# Altium schematic symbol library SYNCBOX_TST.SCHLIB: 106 symbols (part 2 of 3)
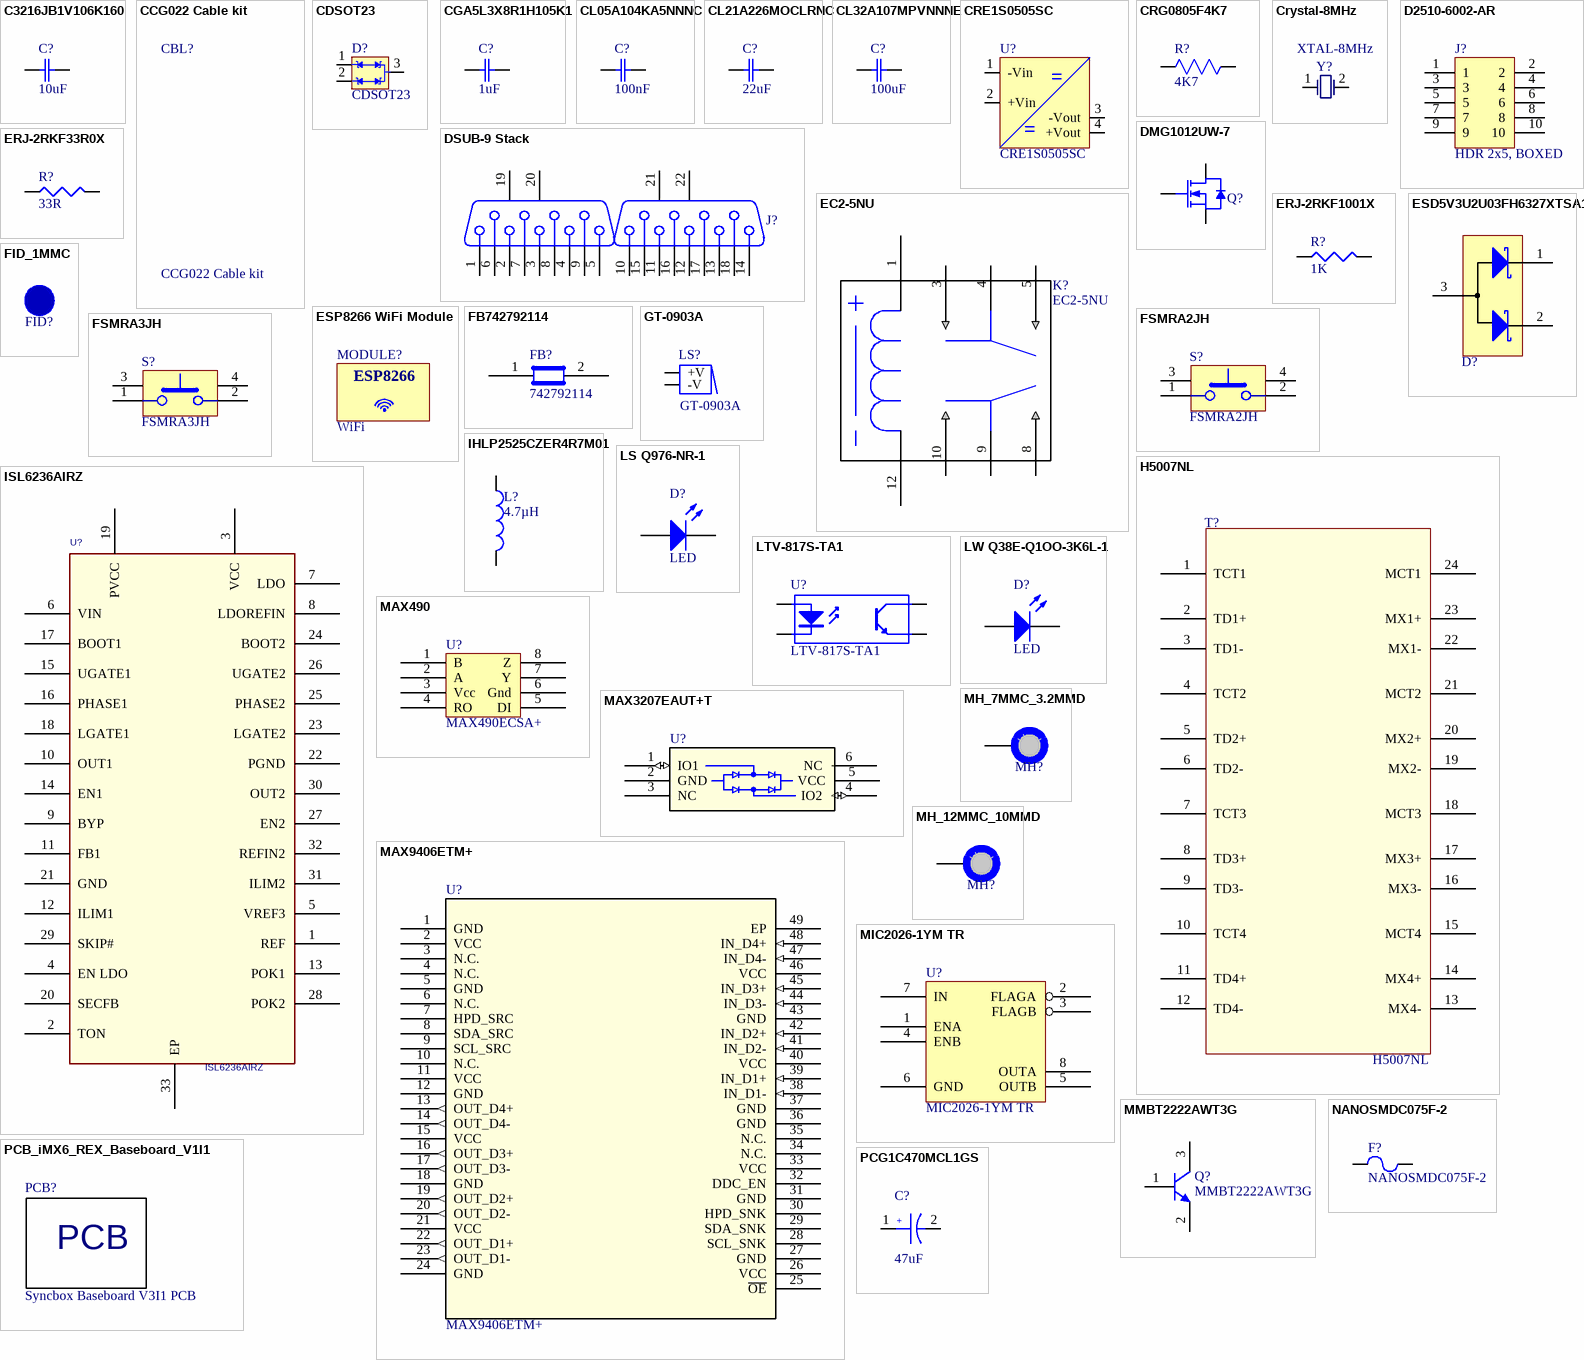
[diagram p3: symbols C3216JB1V106K160 to PCG1C470MCL1GS]

## CL32A107MPVNNNE
designator C?, comment 100uF
CAP CER 100UF 10V X5R 1210; Manufacturer_Part_Number: C1210C107M8PACTU; Manufacturer 1: Samsung Electro-Mechanics; Manufacturer Part Number 1: CL32A107MPVNNNE; Tolerance: ±20%; Vendor: Kemet; Built_By: EMA_UL_Team; Type: DEV; C: Copyright (C) 2015 Accelerated Designs. All rights reserved; Notification: Current market demand for these product types have resulted in fluctuating and extending lead times. Lead times may differ.; Category: Capacitors; Operating Temperature: -55°C ~ 85°C; Package / Case: 1210 (3225 Metric); Value: 100uF; Voltage - Rated: 10V; Supplier 1: Digi-Key; Supplier Part Number 1: 1276-3364-1-ND; RoHS: RoHS Compliant; Stock 1: 10000; Pricing 1: 1=1.23, 10=0.97, 100=0.7277, 500=0.54984 (USD); Temperature Coefficient: X5R; Mounting Type: Surface Mount, MLCC; Applications: General Purpose; Ratings: -; Size / Dimension: 0.126" L x 0.098" W (3.20mm x 2.50mm); Height - Seated (Max): -; Thickness (Max): 0.110" (2.80mm); Lead Spacing: -; Features: -; Packaging: Cut Tape (CT); Lead Style: -; ComponentLink1URL: http://www.samsungsem.com/kr/support/product-search/mlcc/CL32A107MPVNNNE.jsp; ComponentLink1Description: http://www.samsungsem.com/kr/support/product-search/mlcc/CL32A107MPVNNNE.jsp; RefDes: RefDes; Part Status: Active; Description 1: CAP CER 100UF 10V X5R 1210
footprint C1210C
footprint C1210C-L
footprint C1210C-M
pins: 1, 2

## CRE1S0505SC
designator U?
DC/DC TH 1W 5-5V SIP SINGLE; Manufacturer 1: Murata Power Solutions Inc.; Voltage - Input (Min): 4.5V; Voltage - Input (Max): 5.5V; Voltage - Output 1: 5V; Current - Output (Max): 200mA; Efficiency: 70%; .Checked SCH: CHK; Manufacturer Part Number 1: CRE1S0505SC; RoHS: RoHS Compliant; Stock 1: 676; Pricing 1: 1=2.69, 5=2.68, 10=2.66, 25=2.63, 50=2.56, 100=2.43, 250=2.28, 500=2.13002, 1000=2.1147 (USD); Packaging: Tube; Part Status: Active; Type: Isolated Module; Voltage - Output 2: -; Voltage - Output 3: -; Applications: ITE (Commercial); Features: -; Operating Temperature: -40°C ~ 85°C; Mounting Type: Through Hole; Package / Case: 4-SIP Module; Size / Dimension: 0.45" L x 0.24" W x 0.30" H (11.5mm x 6.1mm x 7.5mm); Supplier Device Package: -; ComponentLink1URL: https://power.murata.com/data/power/ncl/kdc_cre1.pdf; ComponentLink1Description: https://power.murata.com/data/power/ncl/kdc_cre1.pdf; Supplier 1: Digi-Key; Supplier Part Number 1: 811-3196-ND; Description 1: DC/DC TH 1W 5-5V SIP SINGLE; Category: Power Supplies - Board Mount; .Checked PCB: CHK
footprint CRE1S0505SC
pins: 1 -Vin, 2 +Vin, 3 -Vout, 4 +Vout

## CRG0805F4K7
designator R?, comment 4K7
RES SMD 4.7K OHM 1% 1/8W 0805; Manufacturer_Part_Number: CRG0805F4K7; Manufacturer 1: TE Connectivity Passive Product; Vendor: TE Connectivity; Built_By: EMA_UL_Team; C: Copyright (C) 2015 Accelerated Designs. All rights reserved; Power (Watts): 0.125W, 1/8W; Temperature Coefficient: ±100ppm/°C; .Checked PCB: CHK; RefDes: RefDes; Type: DEV; Value: 4k7; Manufacturer Part Number 1: CRG0805F4K7; RoHS: RoHS Compliant; Stock 1: 28633; Pricing 1: 1=0.1, 10=0.035, 100=0.0143, 1000=0.00641, 2500=0.00557 (USD); Packaging: Cut Tape (CT); Part Status: Active; Tolerance: ±1%; Composition: Thick Film; Features: -; Operating Temperature: -55°C ~ 125°C; Package / Case: 0805 (2012 Metric); Supplier Device Package: 0805; Size / Dimension: 0.079" L x 0.049" W (2.00mm x 1.25mm); Height - Seated (Max): 0.026" (0.65mm); Failure Rate: -; ComponentLink1URL: http://www.te.com/commerce/DocumentDelivery/DDEController?Action=srchrtrv&DocNm=1773204&DocType=DS&DocLang=English; ComponentLink1Description: http://www.te.com/commerce/DocumentDelivery/DDEController?Action=srchrtrv&DocNm=1773204&DocType=DS&DocLang=English; Supplier 1: Digi-Key; Supplier Part Number 1: A106065CT-ND; Description 1: RES SMD 4.7K OHM 1% 1/8W 0805; Category: Resistors; .Checked SCH: CHK
footprint RES0805_CRG_TYCO
pins: 1, 2

## Crystal-8MHz
designator Y?, comment XTAL-8MHz
8MHz ±30ppm Crystal 18pF 80 Ohm -20°C ~ 70°C  Surface Mount HC49/US; Brand: ABRACON; Case Height: 4.2 mm; Case Length: 11.4 mm; Case Width: 4.7 mm; ESR: 80 Ohms; Frequency Stability: 50 PPM; Manufacturer 2: ABRACON; Manufacturer Part Number 2: ABLS-8.000MHZ-B4-T; Stock 2: 7825; Dimensions: 4.7 mm W x 11.4 mm L x 4.2 mm H; Frequency: 8 MHz; Load Capacitance: 18 pF; Package / Case: HC-49/US; Operating Temperature Range: - 20 C to + 70 C; Mounting Style: SMD/SMT; Factory Pack Quantity: 1000; Product Category: Crystals; RoHS: Details; Tolerance: 30 PPM; Termination Style: SMD/SMT; Packaging: Reel; Series: ABLS; Type: Low Profile Microprocessor Crystal; ComponentLink1URL: https://abracon.com/Support/PackageDrawing/Resonators/ABLS-2D.pdf; ComponentLink1Description: https://abracon.com/Support/PackageDrawing/Resonators/ABLS-2D.pdf; ComponentLink2URL: http://www.abracon.com/Support/PackageDrawing/Resonators/ABLS-2D.pdf; ComponentLink2Description: http://www.abracon.com/Support/PackageDrawing/Resonators/ABLS-2D.pdf; Supplier 1: Digi-Key; Supplier Part Number 1: 535-10212-1-ND; Supplier 2: RSComponents; Supplier Part Number 2: 1710238; Description 2: 8MHz ±30ppm Crystal 18pF 80 Ohm -20°C ~ 70°C  Surface Mount HC49/US
footprint HC49/US
pins: 1, 2

## D2510-6002-AR
designator J?, comment HDR 2x5, BOXED
CONN HEADER 10POS VERT 10GOLD; Manufacturer: 3M; Manufacturer Part Number: D2510-6002-AR; Connector Type: Header, Shrouded; Number of Positions: 10; Number of Positions Loaded: All; Pitch: 0.100" (2.54mm); .Creator: MM; Supplier 1: Digi-Key; RoHS: RoHS Compliant; Category: Connectors, Interconnects; Stock 1: 1080; Pricing 1: 1=1.57, 10=1.421, 50=1.276, 100=1.218, 250=1.102, 500=1.015, 1000=0.87, 2500=0.812, 5000=0.7714 (USD); Packaging: Bulk; Contact Type: Male Pin; Number of Rows: 2; Row Spacing: 0.100" (2.54mm); Contact Mating Length: 0.243" (6.17mm); Mounting Type: Through Hole; Termination: Solder; Fastening Type: -; Features: -; Contact Finish: Gold; Contact Finish Thickness: 10µin (0.25µm); Color: Black; ComponentLink1URL: http://multimedia.3m.com/mws/mediawebserver?66666UuZjcFSLXTtm8T_oxMcEVuQEcuZgVs6EVs6E666666--; ComponentLink1Description: http://multimedia.3m.com/mws/mediawebserver?66666UuZjcFSLXTtm8T_oxMcEVuQEcuZgVs6EVs6E666666--; Supplier Part Number 1: MHC10E-ND; .Checked PCB: MM; .Checked SCH: MM
footprint HDR_2X5_2.54MM_BOXED
pins: 1, 2, 3, 4, 5, 6, 7, 8, 9, 10

## DMG1012UW-7
designator Q?, comment MOSFET N-CH 20V 1A SOT323  (value not drawn)
Manufacturer 1: Diodes Incorporated; Manufacturer Part Number 1: DMG1012UW-7; Note: Pin 2 is electrically connected to pin 4.; FET Type: N-Channel; Current - Continuous Drain (Id) @ 25°C: 1A (Ta); Drive Voltage (Max Rds On,  Min Rds On): 1.8V, 4.5V; Rds On (Max) @ Id, Vgs: 450 mOhm @ 600mA, 4.5V; Vgs(th) (Max) @ Id: 1V @ 250µA; Vgs (Max): ±6V; Power Dissipation (Max): 290mW (Ta); Published: 8-Jun-2000; LatestRevisionDate: 17-Jul-2002; LatestRevisionNote: Re-released for DXP Platform.; DatasheetVersion: PD-9.814; PackageReference: TO-220AB; Publisher: Altium Limited; Code_JEDEC: TO-220-AB; ComponentLink1Description: Manufacturer Link; ComponentLink1URL: http://www.irf.com/; Digikey P/N: DMG1012UW-7DITR-ND; Supplier 1: Digi-Key; Supplier Part Number 1: DMG1012UW-7DICT-ND; RoHS: RoHS Compliant; Description 1: MOSFET N-CH 20V 1A SOT323; Category: Discrete Semiconductor Products; Stock 1: 211076; Pricing 1: 1=0.41, 10=0.37, 100=0.2074, 500=0.1111, 1000=0.07554 (USD); Packaging: Cut Tape (CT); Part Status: Active; Technology: MOSFET (Metal Oxide); FET Feature: -; Operating Temperature: -55°C ~ 150°C (TJ); Mounting Type: Surface Mount; Supplier Device Package: SOT-323; Package / Case: SC-70, SOT-323; ComponentLink2URL: https://www.diodes.com/assets/Datasheets/ds31859.pdf; ComponentLink2Description: https://www.diodes.com/assets/Datasheets/ds31859.pdf
footprint SOT-23-3 (SOT-23; 3 Leads; Body 3.0 x 2.6 mm, inc. leads (LxW max))
footprint SC70-LB3_L (SOT323, 3-Leads, Body 2.0x1.3mm, Pitch 0.65mm, Lead Span 2.1mm, IPC High Density)
footprint SC70-LB3_M (SOT323, 3-Leads, Body 2.0x1.3mm, Pitch 0.65mm, Lead Span 2.1mm, IPC Low Density)
footprint SC70_SOT323
pins: 1 G, 2 S, 3 D

## DSUB-9 Stack
designator J?, comment DSUB-9 Stacked  (value not drawn)
189-009-613R491; Manufacturer 1: NorComp Inc.; PackageDocument: O; Positions: 9; Gender: Receptacle; Connector Style: D-Sub - Stacked; Connector Type: Plug, Male Pins; Number of Positions: 9, 9; Flange Feature: Housing/Shell (4-40); Material Flammability Rating: UL94 V-0; Current Rating: 5A; Contact Form: Stamped; Backset Spacing: 0.318" (8.08mm); Description 1: CONN D-SUB PLUG 9POS R/A SLDR; .Checked PCB: CHK; Published: 15-Jun-2001; LatestRevisionDate: 17-Jul-2002; LatestRevisionNote: Re-released for DXP Platform.; DatasheetDocument: 1-Sep-1999; PackageReference: 788750; Publisher: Altium Limited; Orientation: Right Angle; Manufacturer Part Number 1: 189-009-613R491; RoHS: RoHS Compliant; Stock 1: 1768; Pricing 1: 1=6.96, 10=6.67, 25=6.09, 50=5.8, 100=5.51, 250=4.93, 500=4.64, 1000=4.06, 2500=3.857 (USD); Packaging: Tray; Part Status: Active; Number of Rows: 2, 2; Shell Size, Connector Layout: 1 (DE, E); 1 (DE, E); Contact Type: Signal; Mounting Type: Panel Mount, Through Hole, Right Angle; Termination: Solder; Features: Board Lock, Grounding Indents, Shielded; Shell Material, Finish: Steel, Nickel Plated; Contact Finish: Gold; Contact Finish Thickness: Flash; Ingress Protection: -; Operating Temperature: -55°C ~ 105°C; Voltage Rating: -; Color: Black; Housing Material: Polyamide (PA9T), Nylon 9T; Wire Gauge: -; Contact Material: Brass; ComponentLink1URL: https://www.norcomp.net/rohspdfs/Connectors/18Y/189/613/189-YYY-613R491.pdf; ComponentLink1Description: https://www.norcomp.net/rohspdfs/Connectors/18Y/189/613/189-YYY-613R491.pdf; Supplier 1: Digi-Key; Supplier Part Number 1: 189-409MME-ND; Category: Connectors, Interconnects; .Checked SCH: CHK
footprint DSUB9-Double (Double Stacked D-Sub Connector 2x9)
pins: 1, 2, 3, 4, 5, 6, 7, 8, 9, 10, 11, 12, 13, 14, 15, 16, 17, 18, 19, 20, 21, 22

## EC2-5NU
designator K?
RELAY GEN PURPOSE DPDT 2A 5V; Vendor: KEMET; Built_By: EMA_UL_Team; C: Copyright (C) 2015 Accelerated Designs. All rights reserved; Relay Type: General Purpose; Coil Type: Non Latching; Coil Voltage: 5VDC; Contact Form: DPDT (2 Form C); Switching Voltage: 250VAC, 220VDC - Max; Turn On Voltage (Max): 3.75 VDC; Turn Off Voltage (Min): 0.5 VDC; Coil Power: 140 mW; .Checked PCB: CHK; Manufacturer_Part_Number: EC2-5NU; RefDes: RefDes; Type: DEV; Value: Value; Manufacturer 1: KEMET; Manufacturer Part Number 1: EC2-5NU; RoHS: RoHS Compliant; Stock 1: 14823; Pricing 1: 1=1.63, 10=1.53, 25=1.36, 50=1.292, 100=1.224, 250=1.088, 500=1.02, 1000=0.952, 5000=0.918 (USD); Packaging: Tube; Part Status: Active; Features: -; Mounting Type: Through Hole; Termination Style: PC Pin; Operating Temperature: -40°C ~ 85°C; Contact Material: Silver Alloy, Gold Alloy; ComponentLink1URL: https://api.kemet.com/component-edge/download/datasheet/EC2-5NU.pdf; ComponentLink1Description: https://api.kemet.com/component-edge/download/datasheet/EC2-5NU.pdf; Supplier 1: Digi-Key; Supplier Part Number 1: 399-11052-5-ND; Description 1: RELAY GEN PURPOSE DPDT 2A 5V; Category: Relays; .Checked SCH: CHK
footprint EC2NU
pins: 1, 3, 4, 5, 8, 9, 10, 12

## ERJ-2RKF33R0X
designator R?, comment 33R
RES SMD 33 OHM 1% 1/10W 0402; Manufacturer 1: Panasonic Electronic Components; Manufacturer Part Number 1: ERJ-2RKF33R0X; Power (Watts): 0.1W, 1/10W; .Checked PCB: RF; Temperature Coefficient: ±100ppm/°C; Category: Resistors; Package / Case: 0402 (1005 Metric); Tolerance: ±1%; .Checked SCH: RF; Supplier 1: Digi-Key; Supplier Part Number 1: P33.0LDKR-ND; RoHS: RoHS Compliant; Stock 1: 459707; Pricing 1: 1=0.1, 10=0.056, 100=0.0227, 1000=0.01021, 2500=0.00886, 5000=0.00732 (USD); Composition: Thick Film; Features: Automotive AEC-Q200; Size / Dimension: 0.039" L x 0.020" W (1.00mm x 0.50mm); Packaging: Digi-Reel®; ComponentLink1URL: https://industrial.panasonic.com/cdbs/www-data/pdf/RDA0000/AOA0000C304.pdf; ComponentLink1Description: https://industrial.panasonic.com/cdbs/www-data/pdf/RDA0000/AOA0000C304.pdf; Part Status: Active; Operating Temperature: -55°C ~ 155°C; Supplier Device Package: 0402; Height - Seated (Max): 0.016" (0.40mm); Failure Rate: -; Description 1: RES SMD 33 OHM 1% 1/10W 0402
footprint R0402
pins: 1, 2

## ERJ-2RKF1001X
designator R?, comment 1K
RES SMD 1K OHM 1% 1/10W 0402; Manufacturer 1: Panasonic Electronic Components; Manufacturer Part Number 1: ERJ-2RKF1001X; .Checked PCB: used; Power (Watts): 0.1W, 1/10W; Temperature Coefficient: ±100ppm/°C; .Checked SCH: used; RoHS: RoHS Compliant; Stock 1: 18630560; Pricing 1: 1=0.1, 10=0.056, 100=0.0227, 1000=0.01021, 2500=0.00886, 5000=0.00732 (USD); Packaging: Digi-Reel®; Part Status: Active; Tolerance: ±1%; Composition: Thick Film; Features: Automotive AEC-Q200; Operating Temperature: -55°C ~ 155°C; Package / Case: 0402 (1005 Metric); Supplier Device Package: 0402; Size / Dimension: 0.039" L x 0.020" W (1.00mm x 0.50mm); Height - Seated (Max): 0.016" (0.40mm); Failure Rate: -; ComponentLink1URL: https://industrial.panasonic.com/cdbs/www-data/pdf/RDA0000/AOA0000C304.pdf; ComponentLink1Description: https://industrial.panasonic.com/cdbs/www-data/pdf/RDA0000/AOA0000C304.pdf; Supplier 1: Digi-Key; Supplier Part Number 1: P1.00KLDKR-ND; Description 1: RES SMD 1K OHM 1% 1/10W 0402; Category: Resistors
footprint R0402
pins: 1, 2

## ESD5V3U2U03FH6327XTSA1
designator D?  (value not drawn)
TVS DIODE 5.3V 15V TSFP-3; Manufacturer 1: Infineon Technologies; Type: Zener; Voltage - Reverse Standoff (Typ): 5.3V (Max); Voltage - Breakdown (Min): 6V; Current - Peak Pulse (10/1000µs): 3A (8/20µs); Power Line Protection: No; Capacitance @ Frequency: 0.4pF @ 1MHz; .Checked PCB: CHK; Manufacturer Part Number 1: ESD5V3U2U03FH6327XTSA1; RoHS: RoHS Compliant; Stock 1: 21994; Pricing 1: 1=0.38, 10=0.311, 100=0.2118, 500=0.15886, 1000=0.11915 (USD); Packaging: Cut Tape (CT); Part Status: Active; Voltage - Clamping (Max) @ Ipp: 15V; Power - Peak Pulse: -; Applications: General Purpose; Operating Temperature: -40°C ~ 125°C (TJ); Mounting Type: Surface Mount; Package / Case: SOT-723; Supplier Device Package: PG-TSFP-3; Base Part Number: ESD5V3; ComponentLink1URL: https://www.infineon.com/dgdl/esd5v3u2useries.pdf?folderId=db3a30431441fb5d011488a9e66f0ded&fileId=db3a30431b0626df011b0d3e3ca97dc0; ComponentLink1Description: https://www.infineon.com/dgdl/esd5v3u2useries.pdf?folderId=db3a30431441fb5d011488a9e66f0ded&fileId=db3a30431b0626df011b0d3e3ca97dc0; Supplier 1: Digi-Key; Supplier Part Number 1: ESD5V3U2U03FH6327XTSA1CT-ND; Description 1: TVS DIODE 5.3V 15V TSFP-3; Category: Circuit Protection; .Checked SCH: CHK
footprint PG-TSLP-3-7
pins: 1, 2, 3

## ESP8266 WiFi Module
designator MODULE?, comment WiFi
TXRX ESP8266 MOD WIFI TRACE ANT; Manufacturer 1: Seeed Technology Co., Ltd; Manufacturer Part Number 1: 317060016; Protocol: 802.11b/g/n; Frequency: 2.4GHz ~ 2.48GHz; Data Rate: 72.2Mbps; Power - Output: 15dBm; Sensitivity: -98dBm; Serial Interfaces: UART; Antenna Type: Integrated, Trace; Memory Size: 1MB Flash; Voltage - Supply: 3.3V; Current - Receiving: 62mA; Current - Transmitting: 215mA; RoHS: RoHS Compliant; Stock 1: 326; Pricing 1: 1=7.09 (USD); Packaging: Bulk; Part Status: Active; RF Family/Standard: WiFi; Modulation: -; Utilized IC / Part: ESP8266; Mounting Type: Through Hole; Operating Temperature: -20°C ~ 100°C; Package / Case: Module; ComponentLink1URL: https://media.digikey.com/pdf/Data%20Sheets/Seeed%20Technology/317060016_Web.pdf; ComponentLink1Description: https://media.digikey.com/pdf/Data%20Sheets/Seeed%20Technology/317060016_Web.pdf; Supplier 1: Digi-Key; Supplier Part Number 1: 1597-1145-ND; Description 1: TXRX ESP8266 MOD WIFI TRACE ANT; Category: RF/IF and RFID

## FB742792114
designator FB?, comment 742792114
FERRITE BEAD 50 OHM 1206 1LN; Filter Type: Signal Line; Current Rating (Max): 3A; DC Resistance (DCR) (Max): 25 mOhm; .Checked PCB: CHK; Supplier 1: Digi-Key; Supplier Part Number 1: 732-1621-6-ND; Manufacturer 2: Wurth Electronics Inc.; Manufacturer Part Number 2: 742792114; RoHS: RoHS Compliant; Stock 2: 21934; Pricing 2: 1=0.24, 10=0.238, 50=0.219, 100=0.209, 500=0.2, 1000=0.19 (USD); Packaging: Cut Tape (CT); Part Status: Active; Ratings: -; Operating Temperature: -55°C ~ 125°C; Package / Case: 1206 (3216 Metric); Mounting Type: Surface Mount; Height (Max): 0.051" (1.30mm); Size / Dimension: 0.126" L x 0.063" W (3.20mm x 1.60mm); ComponentLink1URL: http://katalog.we-online.de/pbs/datasheet/742792114.pdf; ComponentLink1Description: http://katalog.we-online.de/pbs/datasheet/742792114.pdf; Supplier 2: Digi-Key; Supplier Part Number 2: 732-1621-1-ND; Description 2: FERRITE BEAD 50 OHM 1206 1LN; Category: Filters; .Checked SCH: CHK
footprint Ferrite bead
pins: 1, 2

## FID_1MMC
designator FID?  (value not drawn)  (no BOM)
Fiducial 40mil Diameter, 120mil Mask; .Checked PCB: CHK; Supplier: Digikey; .Checked SCH: CHK
footprint FID_40X120D

## FSMRA2JH
designator S?
SWITCH TACTILE SPST-NO 0.05A 24V; Manufacturer 1: TE Connectivity ALCOSWITCH Switches; Manufacturer Part Number 1: 1825027-5; .Checked PCB: MM; Switch Function: Off-Mom; Contact Rating @ Voltage: 0.05A @ 24VDC; Actuator Type: Standard; Actuator Length, Right Angle: 3.86mm; Actuator Orientation: Side Actuated; Outline: 7.10mm x 7.00mm; Illumination: Non-Illuminated; Operating Force: 160gf; Actuator Material: Polybutylene Terephthalate (PBT); Switch Travel: 0.25mm; Mechanical Life: 100,000 Cycles; .Checked SCH: MM; RoHS: RoHS Compliant; Stock 1: 37455; Pricing 1: 1=0.17, 10=0.169, 25=0.1628, 50=0.157, 100=0.1482, 250=0.13952, 500=0.1337, 1000=0.10173, 5000=0.08429 (USD); Packaging: Bulk; Part Status: Active; Circuit: SPST-NO; Mounting Type: Through Hole, Right Angle; Actuator Height off PCB, Vertical: -; Termination Style: PC Pin; Illumination Type, Color: -; Illumination Voltage (Nominal): -; Ingress Protection: -; Features: -; Operating Temperature: -35°C ~ 85°C; ComponentLink1URL: http://www.te.com/commerce/DocumentDelivery/DDEController?Action=srchrtrv&DocNm=1825027&DocType=Customer+Drawing&DocLang=English; ComponentLink1Description: http://www.te.com/commerce/DocumentDelivery/DDEController?Action=srchrtrv&DocNm=1825027&DocType=Customer+Drawing&DocLang=English; Supplier 1: Digi-Key; Supplier Part Number 1: 450-1662-ND; Description 1: SWITCH TACTILE SPST-NO 0.05A 24V; Category: Switches
footprint FSMRA2JH
pins: 1, 2, 3 MECH1, 4 MECH2

## FSMRA3JH
designator S?
SWITCH TACTILE SPST-NO 0.05A 12V; Manufacturer: TE Connectivity; Switch Function: Off-Mom; Contact Rating @ Voltage: 0.05A @ 12VDC; Actuator Type: Standard; Actuator Height off PCB, from Pins: 5.85mm; Actuator Orientation: Side Actuated; Outline: 7.10mm x 7.00mm; Illumination: Non-Illuminated; Operating Force: 160gf; Actuator Material: Polyamide (PA), Nylon; Switch Travel: 0.25mm; Mechanical Life: 100,000 Cycles; .Creator: MM; .Checked PCB: CHK; Supplier 1: Digi-Key; Manufacturer Part Number: FSMRA3JH; RoHS: RoHS Compliant; Category: Switches; Stock 1: 37985; Pricing 1: 1=0.15, 10=0.143, 25=0.1376, 50=0.1328, 100=0.1255, 250=0.11808, 500=0.11316, 1000=0.0861 (USD); Packaging: Bulk; Circuit: SPST-NO; Mounting Type: Through Hole, Right Angle; Termination Style: PC Pin; Illumination Voltage (Nominal): -; Illumination Type, Color: -; Ingress Protection: -; Features: -; Operating Temperature: -35°C ~ 85°C; ComponentLink1URL: http://www.te.com/commerce/DocumentDelivery/DDEController?Action=srchrtrv&DocNm=1825027&DocType=Customer+Drawing&DocLang=English; ComponentLink1Description: http://www.te.com/commerce/DocumentDelivery/DDEController?Action=srchrtrv&DocNm=1825027&DocType=Customer+Drawing&DocLang=English; Supplier Part Number 1: 450-1657-ND; .Checked SCH: CHK
footprint FSMRA3JH
pins: 1, 2, 3 MECH1, 4 MECH2

## GT-0903A
designator LS?
AUDIO MAGNETIC XDCR 2-4V TH; Manufacturer 1: Soberton Inc.; Driver Circuitry: Transducer, Externally Driven; Input Type: Zero-Peak Signal; Voltage Range: 2 ~ 4V; Frequency: 2.73kHz; Operating Mode: Single Tone; Sound Pressure Level (SPL): 85dB @ 3V, 10cm; Current - Supply: 80mA; Port Location: Top; Supplier 1: Digi-Key; Supplier Part Number 1: 433-1032-ND; Manufacturer Part Number 1: GT-0903A; RoHS: RoHS Compliant; Description 1: AUDIO MAGNETIC XDCR 2-4V TH; Category: Audio Products; Stock 1: 13944; Pricing 1: 1=0.97, 10=0.774, 25=0.7036, 50=0.658, 100=0.6125, 250=0.56, 500=0.5215, 1000=0.4865, 5000=0.4375 (USD); Packaging: Tray; Part Status: Active; Technology: Magnetic; Duration: -; Operating Temperature: -20°C ~ 60°C; Approvals: -; Ratings: -; Mounting Type: Through Hole; Termination: PC Pins; Size / Dimension: 0.354" Dia (9.00mm); Height - Seated (Max): 0.197" (5.00mm); ComponentLink1URL: http://cirlw3yrzg4afc1x47lv2k18.wpengine.netdna-cdn.com/wp-content/uploads/2016/10/GT-0903A-Rev.A_2016-1.pdf; ComponentLink1Description: http://cirlw3yrzg4afc1x47lv2k18.wpengine.netdna-cdn.com/wp-content/uploads/2016/10/GT-0903A-Rev.A_2016-1.pdf
footprint GT-0903A
pins: 1 +V, 2 -V

## H5007NL
designator T?
MODULE SINGLE GIGABIT LAN 24SOIC; Manufacturer: PULSE ELECTRONICS CORPORATION; .Checked PCB: MM; Transformer Type: Isolation and Data Interface (Encapsulated); Turns Ratio - Primary:Secondary: 1CT : 1CT; Category: Transformers; Family: Pulse; Manufacturer Part Number: H5007NL; Operating Temperature: 0°C ~ 70°C; Price 1k [$]: 3.25125; Supplier: Digikey; Supplier Part Number: 553-1334-ND; .Checked SCH: MM; Supplier 1: Digi-Key; Supplier Part Number 1: 553-1334-ND; RoHS: RoHS Compliant; Stock 1: 15654; Pricing 1: 1=5.74, 10=5.1, 100=4.08, 250=3.69752, 500=3.50626, 1000=3.25125, 5000=3.162 (USD); Inductance: -; E.T.: -; Mounting Type: Surface Mount; Size / Dimension: 17.53mm L x 12.20mm W; Height - Seated (Max): 5.76mm; ComponentLink1URL: http://ww2.pulseeng.com/products/datasheets/HC500.pdf; ComponentLink1Description: http://ww2.pulseeng.com/products/datasheets/HC500.pdf
footprint H5007NL
pins: 1 TCT1, 2 TD1+, 3 TD1-, 4 TCT2, 5 TD2+, 6 TD2-, 7 TCT3, 8 TD3+, 9 TD3-, 10 TCT4, 11 TD4+, 12 TD4-, 13 MX4-, 14 MX4+, 15 MCT4, 16 MX3-, 17 MX3+, 18 MCT3, 19 MX2-, 20 MX2+, 21 MCT2, 22 MX1-, 23 MX1+, 24 MCT1

## IHLP2525CZER4R7M01
designator L?, comment 4.7µH
INDUCTOR POWER 4.7UH 5.5A SMD; Manufacturer: Vishay/Dale; Manufacturer Part Number: IHLP2525CZER4R7M01; .Checked PCB: CHK; Current - Saturation: 10A; Shielding: Shielded; DC Resistance (DCR): 40 mOhm Max; Tolerance: ±20%; Frequency - Test: 100kHz; .Checked SCH: CHK; Category: Inductors, Coils, Chokes; Operating Temperature: -55°C ~ 125°C; Package / Case: 0.270" L x 0.255" W x 0.118" H (6.86mm x 6.47mm x 3.00mm); Price 1k [$]: 1.09800; Value: 4.7µH; Inductance: 4.7µH; Current: 5.5A; Applications: General Purpose; Supplier Part Number: 541-1010-1-ND; Supplier: Digikey; Supplier 1: Digi-Key; Supplier Part Number 1: 541-1010-1-ND; RoHS: RoHS Compliant; Stock 1: 25684; Pricing 1: 1=2.26, 10=1.83, 100=1.525, 500=1.22, 1000=1.098 (USD); Current - Temperature Rise: 5.5A; Type: -; Q @ Freq: -; Frequency - Self Resonant: -; Material - Core: -; Mounting Type: Surface Mount; Packaging: Cut Tape (CT); ComponentLink1URL: http://www.vishay.com/doc?34104; ComponentLink1Description: http://www.vishay.com/doc?34104
footprint IHLP_255MILx270MIL
pins: 1, 2

## ISL6236AIRZ
designator U?
IC MAIN PWR CTRLR QUAD 32-QFN; Manufacturer: Intersil; .Checked PCB: CHK; Voltage - Input: 4.5 V ~ 25 V; Number of Outputs: 4; Voltage - Output: Multiple; .Checked SCH: CHK; Category: Integrated Circuits (ICs); Manufacturer Part Number: ISL6236AIRZ; Operating Temperature: -40°C ~ 100°C; Package / Case: 32-VFQFN Exposed Pad; Price 1k [$]: 3.0840; Value: ISL6236AIRZ; Family: PMIC - Voltage Regulators - Special Purpose; Supplier Part Number: ISL6236AIRZ-ND; Supplier: Digikey; Supplier 1: Digi-Key; Supplier Part Number 1: ISL6236AIRZ-ND; RoHS: RoHS Compliant; Stock 1: 0; Pricing 1: 600=4.28 (USD); Applications: Controller, Notebook Power System; Mounting Type: Surface Mount; Supplier Device Package: 32-QFN Exposed Pad (5x5); Packaging: Tube; ComponentLink1URL: http://www.intersil.com/data/fn/fn6453.pdf; ComponentLink1Description: http://www.intersil.com/data/fn/fn6453.pdf
footprint 32_VFQFN_EXPOSED_PAD
pins: 1 REF, 2 TON, 3 VCC, 4 EN LDO, 5 VREF3, 6 VIN, 7 LDO, 8 LDOREFIN, 9 BYP, 10 OUT1, 11 FB1, 12 ILIM1, 13 POK1, 14 EN1, 15 UGATE1, 16 PHASE1, 17 BOOT1, 18 LGATE1, 19 PVCC, 20 SECFB, 21 GND, 22 PGND, 23 LGATE2, 24 BOOT2, 25 PHASE2, 26 UGATE2, 27 EN2, 28 POK2, 29 SKIP#, 30 OUT2, 31 ILIM2, 32 REFIN2, 33 EP

## LS Q976-NR-1
designator D?, comment LED
LED RED DIFFUSED 0603 SMD; Manufacturer 1: OSRAM Opto Semiconductors Inc.; Manufacturer Part Number 1: LS Q976-NR-1; Lens Color: White; Millicandela Rating: 104mcd; Lens Style/Size: Rectangle with Flat Top, 1.00mm x 0.80mm; Voltage - Forward (Vf) (Typ): 2V; Current - Test: 20mA; Viewing Angle: 160°; Wavelength - Dominant: 633nm; Wavelength - Peak: 645nm; Published: 8-Jun-2000; LatestRevisionDate: 08-Jul-2005; LatestRevisionNote: Mech Layer 1 removed.; PackageReference: LED-0; Publisher: Altium Limited; PackageDescription: LED; 2 Leads; Supplier 1: Digi-Key; Supplier Part Number 1: 475-2512-1-ND; RoHS: RoHS Compliant; Description 1: LED RED DIFFUSED 0603 SMD; Category: Optoelectronics; Stock 1: 127302; Pricing 1: 1=0.38, 10=0.274, 25=0.202, 100=0.1444, 250=0.0982, 500=0.08664, 1000=0.06787 (USD); Packaging: Cut Tape (CT); Part Status: Active; Color: Red; Lens Transparency: Diffused; Mounting Type: Surface Mount; Features: -; Package / Case: 0603 (1608 Metric); Supplier Device Package: 0603; Size / Dimension: 1.60mm L x 0.80mm W; Height (Max): 0.80mm; ComponentLink1URL: https://dammedia.osram.info/media/resource/hires/osram-dam-2493499/LS%20Q976.pdf; ComponentLink1Description: https://dammedia.osram.info/media/resource/hires/osram-dam-2493499/LS%20Q976.pdf
footprint D0603_Directional (0603 Case Diode)
pins: 1 A, 2 K

## LTV-817S-TA1
designator U?
OPTOISOLATR 5KV TRANSISTOR 4-SMD; Manufacturer 1: Lite-On Inc.; Voltage - Isolation: 5000Vrms; Current Transfer Ratio (Min): 50% @ 5mA; Current Transfer Ratio (Max): 600% @ 5mA; Rise / Fall Time (Typ): 4µs, 3µs; Input Type: DC; Voltage - Output (Max): 35V; Current - Output / Channel: 50mA; Voltage - Forward (Vf) (Typ): 1.2V; Vce Saturation (Max): 200mV; Supplier 1: Digi-Key; Supplier Part Number 1: 160-1893-6-ND; Manufacturer Part Number 1: LTV-817S-TA1; RoHS: RoHS Compliant; Description 1: OPTOISOLATR 5KV TRANSISTOR 4-SMD; Category: Isolators; Stock 1: 191196; Pricing 1: 1=0.51, 10=0.369, 25=0.3016, 100=0.2411, 250=0.20344, 500=0.1733 (USD); Packaging: Digi-Reel®; Part Status: Active; Turn On / Turn Off Time (Typ): -; Output Type: Transistor; Operating Temperature: -30°C ~ 110°C; Mounting Type: Surface Mount; Package / Case: 4-SMD, Gull Wing; Supplier Device Package: 4-SMD; ComponentLink1URL: http://optoelectronics.liteon.com/upload/download/DS-70-96-0016/LTV-8X7%20series%20201610%20.pdf; ComponentLink1Description: http://optoelectronics.liteon.com/upload/download/DS-70-96-0016/LTV-8X7%20series%20201610%20.pdf
footprint 4-SMD-opto
pins: 1 A "Anode", 2 K "Cathode", 3 E "Emitter", 4 C "Collector"

## LW Q38E-Q1OO-3K6L-1
designator D?, comment LED
LED COOL WHITE DIFFUSED 0603 SMD; Manufacturer 1: OSRAM Opto Semiconductors Inc.; Manufacturer Part Number 1: LW Q38E-Q1OO-3K6L-1; Color: White, Cool; Lens Color: Yellow; Millicandela Rating: 81mcd; Lens Style/Size: Rectangle with Flat Top, 1.10mm x 0.80mm; Voltage - Forward (Vf) (Typ): 2.85V; Current - Test: 5mA; Viewing Angle: 150°, 130°; Wavelength - Dominant: 8200K; Supplier 1: Digi-Key; Supplier Part Number 1: 475-2831-1-ND; RoHS: RoHS Compliant; Description 1: LED COOL WHITE DIFFUSED 0603 SMD; Category: Optoelectronics; Stock 1: 215520; Pricing 1: 1=0.49, 10=0.354, 25=0.2888, 100=0.231, 250=0.19492, 500=0.16604, 1000=0.12994 (USD); Packaging: Cut Tape (CT); Part Status: Active; Lens Transparency: Diffused; Mounting Type: Surface Mount; Wavelength - Peak: -; Features: -; Package / Case: 0603 (1608 Metric); Supplier Device Package: 0603; Size / Dimension: 1.60mm L x 0.80mm W; Height (Max): 0.40mm; ComponentLink1URL: https://dammedia.osram.info/media/resource/hires/osram-dam-2493068/LW%20Q38E.pdf; ComponentLink1Description: https://dammedia.osram.info/media/resource/hires/osram-dam-2493068/LW%20Q38E.pdf
footprint D0603_Directional (0603 Case Diode)
pins: 1 A, 2 K

## MAX490
designator U?, comment MAX490ECSA+
IC TXRX RS485/RS422 8-SOIC; Manufacturer 1: Maxim Integrated; .Checked PCB: CHK; Function: Transceiver; Data Rate: 2.5 Mb/s; Number of Drivers: 1 Driver; Number of Receivers: 1 Receiver; Operating Supply Voltage: 5 V; Operating Supply Current: 300 uA; Duplex: Full Duplex; Input Voltage: 0.8 V to 2 V; Output Voltage: 3 V; Pd - Power Dissipation: 471 mW; Propagation Delay Time: 40 ns, 60 ns; Unit Weight: 0.019048 oz; .Checked SCH: CHK; Supplier 1: RSComponents; Supplier Part Number 1: 7327955; Manufacturer Part Number 1: MAX490ECSA+; Description 1: IC TXRX RS485/RS422 8-SOIC; Stock 1: 37; Pricing 1: 1=2.67, 25=2.59, 100=2.53, 250=2.46, 500=2.4 (EUR); Product Category: RS-422/RS-485 Interface IC; RoHS: True; Maximum Operating Temperature: + 70 C; Minimum Operating Temperature: 0 C; Mounting Style: SMD/SMT; Package / Case: SOIC-8; Packaging: Tube; Brand: Maxim Integrated; Series: MAX490E; Part # Aliases: MAX490E; ComponentLink1URL: https://datasheet.ciiva.com/26835/max490ecsa-26835125.pdf; ComponentLink1Description: https://datasheet.ciiva.com/26835/max490ecsa-26835125.pdf; ComponentLink2URL: https://datasheet.ciiva.com/4786/max1487e-max491e-101921-4786102.pdf; ComponentLink2Description: https://datasheet.ciiva.com/4786/max1487e-max491e-101921-4786102.pdf; ComponentLink3URL: https://datasheet.ciiva.com/1713/max1487e-max491e-1713224.pdf; ComponentLink3Description: https://datasheet.ciiva.com/1713/max1487e-max491e-1713224.pdf; ComponentLink4URL: https://datasheet.ciiva.com/14152/max481e-83e-1487e-eng-tds-14152666.pdf; ComponentLink4Description: https://datasheet.ciiva.com/14152/max481e-83e-1487e-eng-tds-14152666.pdf; ComponentLink5URL: https://datasheet.ciiva.com/16641/max1487e-max491e-16641645.pdf; ComponentLink5Description: https://datasheet.ciiva.com/16641/max1487e-max491e-16641645.pdf; ComponentLink6URL: https://datasheet.ciiva.com/3028/max1487e-max491e-3028671.pdf; ComponentLink6Description: https://datasheet.ciiva.com/3028/max1487e-max491e-3028671.pdf
footprint 21-0041B_8
pins: 1 B, 2 A, 3 Vcc, 4 RO, 5 DI, 6 Gnd, 7 Y, 8 Z

## MAX3207EAUT+T
designator U?, comment TVS DIODE 5V 8.1V SOT23-6  (value not drawn)
MAX3207E; Manufacturer_Part_Number: MAX3207EAUT+T; Manufacturer 1: Maxim Integrated; Vendor: Maxim Integrated Products; Built_By: EMA_UL_Team; C: Copyright (C) 2015 Accelerated Designs. All rights reserved; Power Line Protection: Yes; Description 1: TVS DIODE SOT23-6; .Checked PCB: CHK; RefDes: RefDes; Type: DEV; Value: Value; Manufacturer Part Number 1: MAX3207EAUT+T; RoHS: RoHS Compliant; Stock 1: 8902; Pricing 1: 1=1.3, 10=1.224, 25=0.9792, 50=0.9302, 100=0.8568, 250=0.81276, 500=0.78336 (USD); Packaging: Cut Tape (CT); Part Status: Active; Voltage - Reverse Standoff (Typ): -; Voltage - Breakdown (Min): -; Voltage - Clamping (Max) @ Ipp: -; Current - Peak Pulse (10/1000µs): -; Power - Peak Pulse: -; Applications: USB OTG; Capacitance @ Frequency: -; Operating Temperature: -40°C ~ 125°C (TA); Mounting Type: Surface Mount; Package / Case: SOT-23-6; Supplier Device Package: SOT-23-6; Base Part Number: MAX3207E; ComponentLink1URL: https://datasheets.maximintegrated.com/en/ds/MAX3205E-MAX3208E.pdf; ComponentLink1Description: https://datasheets.maximintegrated.com/en/ds/MAX3205E-MAX3208E.pdf; Supplier 1: Digi-Key; Supplier Part Number 1: MAX3207EAUT+TCT-ND; Category: Circuit Protection; .Checked SCH: CHK
footprint 21-0058I
pins: 1 IO1 (io), 2 GND (power), 3 NC, 4 IO2 (io), 5 VCC (power), 6 NC

## MAX9406ETM+
designator U?
IC DVI/HDMI LVL SHIFTR 48TQFN; Manufacturer 1: Maxim Integrated; Type: Level Shifter; Manufacturer Part Number 1: MAX9406ETM+; RoHS: RoHS Compliant; Stock 1: 162; Pricing 1: 1=3.75, 10=3.563, 25=2.94, 50=2.793, 250=2.70752, 500=2.44832 (USD); Packaging: Tube; Part Status: Active; Applications: Base Stations; Mounting Type: Surface Mount; Package / Case: 48-WFQFN Exposed Pad; Supplier Device Package: 48-TQFN (7x7); Base Part Number: MAX9406; ComponentLink1URL: https://datasheets.maximintegrated.com/en/ds/MAX9406.pdf; ComponentLink1Description: https://datasheets.maximintegrated.com/en/ds/MAX9406.pdf; Supplier 1: Digi-Key; Supplier Part Number 1: MAX9406ETM+-ND; Description 1: IC DVI/HDMI LVL SHIFTR 48TQFN; Category: Integrated Circuits (ICs)
footprint 21-0144H_T4877-6
footprint 21-0144H_T487700
footprint 21-0144H_T487701
pins: 1 GND (power), 2 VCC (power), 3 N.C., 4 N.C., 5 GND (power), 6 N.C., 7 HPD_SRC, 8 SDA_SRC, 9 SCL_SRC, 10 N.C., 11 VCC (power), 12 GND (power), 13 OUT_D4+ (out), 14 OUT_D4- (out), 15 VCC (power), 16 OUT_D3+ (out), 17 OUT_D3- (out), 18 GND (power), 19 OUT_D2+ (out), 20 OUT_D2- (out), 21 VCC, 22 OUT_D1+ (out), 23 OUT_D1- (out), 24 GND (power), 25 ~{OE}, 26 VCC (power), 27 GND (power), 28 SCL_SNK, 29 SDA_SNK, 30 HPD_SNK, 31 GND (power), 32 DDC_EN, 33 VCC (power), 34 N.C., 35 N.C., 36 GND (power), 37 GND (power), 38 IN_D1- (in), 39 IN_D1+ (in), 40 VCC (power), 41 IN_D2- (in), 42 IN_D2+ (in), 43 GND (power), 44 IN_D3- (in), 45 IN_D3+ (in), 46 VCC (power), 47 IN_D4- (in), 48 IN_D4+ (in), 49 EP

## MH_7MMC_3.2MMD
designator MH?  (value not drawn)  (no BOM)
Mounting Hole 7mm Diameter, 3.2mm Drill
footprint MH_7MMC_3.2MMD
pins: 1

## MH_12MMC_10MMD
designator MH?  (value not drawn)  (no BOM)
Mounting Hole 12mm Diameter, 10mm Drill
footprint MH_12MMC_10MMD (Mounting hole)
pins: 1

## MIC2026-1YM TR
designator U?
IC SW DISTRIBUTION 2CHAN 8SOIC; Manufacturer: Micrel Inc; .Checked PCB: CHK; Number of Outputs: 2; Rds (On): 140 mOhm; Internal Switch(s): Yes; Current Limit: 900mA; Voltage - Input: 2.7 V ~ 5.5 V; .Checked SCH: CHK; Category: Integrated Circuits (ICs); Family: PMIC - Power Distribution Switches; Manufacturer Part Number: MIC2026-1YM TR; Operating Temperature: -40°C ~ 85°C; Package / Case: 8-SOIC (0.154", 3.90mm Width); Price 1k [$]: 0.53200; Supplier: Digikey; Supplier Part Number: 576-1059-1-ND; Value: MIC2026-1YM TR; Supplier 1: Digi-Key; Supplier Part Number 1: 576-1059-1-ND; RoHS: RoHS Compliant; Stock 1: 44857; Pricing 1: 1=1.14, 25=0.95, 100=0.76, 250=0.57, 500=0.532 (USD); Type: High Side Switch; Mounting Type: Surface Mount; Supplier Device Package: 8-SOIC; Packaging: Cut Tape (CT); ComponentLink1URL: http://www.micrel.com/_PDF/mic2026.pdf; ComponentLink1Description: http://www.micrel.com/_PDF/mic2026.pdf
footprint 8_SOIC_3.9MM
pins: 1 ENA, 2 FLAGA, 3 FLAGB, 4 ENB, 5 OUTB, 6 GND (power), 7 IN (power), 8 OUTA

## MMBT2222AWT3G
designator Q?
TRANS NPN 40V 0.6A SC70-3; Manufacturer 1: ON Semiconductor; Vce Saturation (Max) @ Ib, Ic: 1V @ 50mA, 500mA; DC Current Gain (hFE) (Min) @ Ic, Vce: 100 @ 150mA, 10V; Frequency - Transition: 300MHz; ComponentLink1Description: http://www.onsemi.com/pub/Collateral/MMBT2222AWT1-D.PDF; ComponentLink1URL: http://www.onsemi.com/pub/Collateral/MMBT2222AWT1-D.PDF; Supplier 1: Digi-Key; Supplier Part Number 1: MMBT2222AWT3GOSDKR-ND; Manufacturer Part Number 1: MMBT2222AWT3G; RoHS: RoHS Compliant; Description 1: TRANS NPN 40V 0.6A SC70-3; Category: Discrete Semiconductor Products; Stock 1: 9990; Pricing 1: 1=0.14, 10=0.126, 100=0.0688, 500=0.04236, 1000=0.02889 (USD); Packaging: Digi-Reel®; Part Status: Active; Operating Temperature: -55°C ~ 150°C (TJ); Package / Case: SC-70, SOT-323; Supplier Device Package: SC-70-3 (SOT323); Transistor Type: NPN; Current - Collector Cutoff (Max): -; Mounting Type: Surface Mount; Base Part Number: MMBT2222A
footprint SC70_SOT323
pins: 1 B, 2 E, 3 C

## NANOSMDC075F-2
designator F?
PTC RESET FUSE 6V 750MA 1206; Manufacturer 1: Littelfuse Inc.; Vendor: TE Connectivity; Built_By: EMA_UL_Team; Type: DEV; C: Copyright (C) 2015 Accelerated Designs. All rights reserved; Approvals: CSA, TUV, UL; .Checked PCB: CHK; Manufacturer_Part_Number: NANOSMDC075F-2; RefDes: RefDes; Value: Value; Manufacturer Part Number 1: NANOSMDC075F-2; RoHS: RoHS Compliant; Stock 1: 13379; Pricing 1: 1=0.54, 5=0.528, 10=0.512, 50=0.4306, 100=0.3575, 250=0.325, 500=0.27626, 1000=0.24375 (USD); Packaging: Cut Tape (CT); Part Status: Active; Voltage - Max: 6V; Operating Temperature: -40°C ~ 85°C; Ratings: -; Mounting Type: Surface Mount; Package / Case: 1206 (3216 Metric), Concave; Size / Dimension: 0.126" L x 0.063" W (3.20mm x 1.59mm); Height - Seated (Max): -; Thickness (Max): 0.027" (0.68mm); Lead Spacing: -; ComponentLink1URL: http://www.littelfuse.com/~/media/electronics/product_specifications/resettable_ptcs/littelfuse_ptc_nanosmdc075f_2_product_specification.pdf.pdf; ComponentLink1Description: http://www.littelfuse.com/~/media/electronics/product_specifications/resettable_ptcs/littelfuse_ptc_nanosmdc075f_2_product_specification.pdf.pdf; Supplier 1: Digi-Key; Supplier Part Number 1: NANOSMDC075F-2CT-ND; Description 1: PTC RESET FUSE 6V 750MA 1206; Category: Circuit Protection; .Checked SCH: CHK
footprint FUS_NANO_TYCO
footprint FUS_NANO_TYCO-L
footprint FUS_NANO_TYCO-M
pins: 1, 2

## PCB_iMX6_REX_Baseboard_V1I1
designator PCB?, comment Syncbox Baseboard V3I1 PCB  (mechanical)
Printed Circuit Board; .Creator: MM; Category: Printed circuits board
text: PCB

## PCG1C470MCL1GS
designator C?, comment 47uF
CAP ALUM POLY 47UF 20% 16V SMD; Manufacturer 1: Nichicon; Manufacturer Part Number 1: PCG1C470MCL1GS; Type: Polymer; ESR (Equivalent Series Resistance): 40 mOhm; Lifetime @ Temp.: 2000 Hrs @ 105°C; Surface Mount Land Size: 0.209" L x 0.209" W (5.30mm x 5.30mm); .Checked PCB: CHK; RoHS: RoHS Compliant; Stock 1: 4045; Pricing 1: 1=1.42, 10=1.123, 100=0.8422, 500=0.63636 (USD); Packaging: Digi-Reel®; Part Status: Active; Tolerance: ±20%; Operating Temperature: -55°C ~ 105°C; Ratings: -; Applications: General Purpose; Lead Spacing: -; Size / Dimension: 0.197" Dia (5.00mm); Height - Seated (Max): 0.236" (6.00mm); Mounting Type: Surface Mount; Package / Case: Radial, Can - SMD; ComponentLink1URL: http://nichicon-us.com/english/products/pdfs/e-pcg.pdf; ComponentLink1Description: http://nichicon-us.com/english/products/pdfs/e-pcg.pdf; Supplier 1: Digi-Key; Supplier Part Number 1: 493-3095-6-ND; Description 1: CAP ALUM POLY 47UF 20% 16V SMD; Category: Capacitors; .Checked SCH: CHK
footprint CAP_P-B
footprint CAP_P-B-L
footprint CAP_P-B-M
pins: 1, 2
text: +

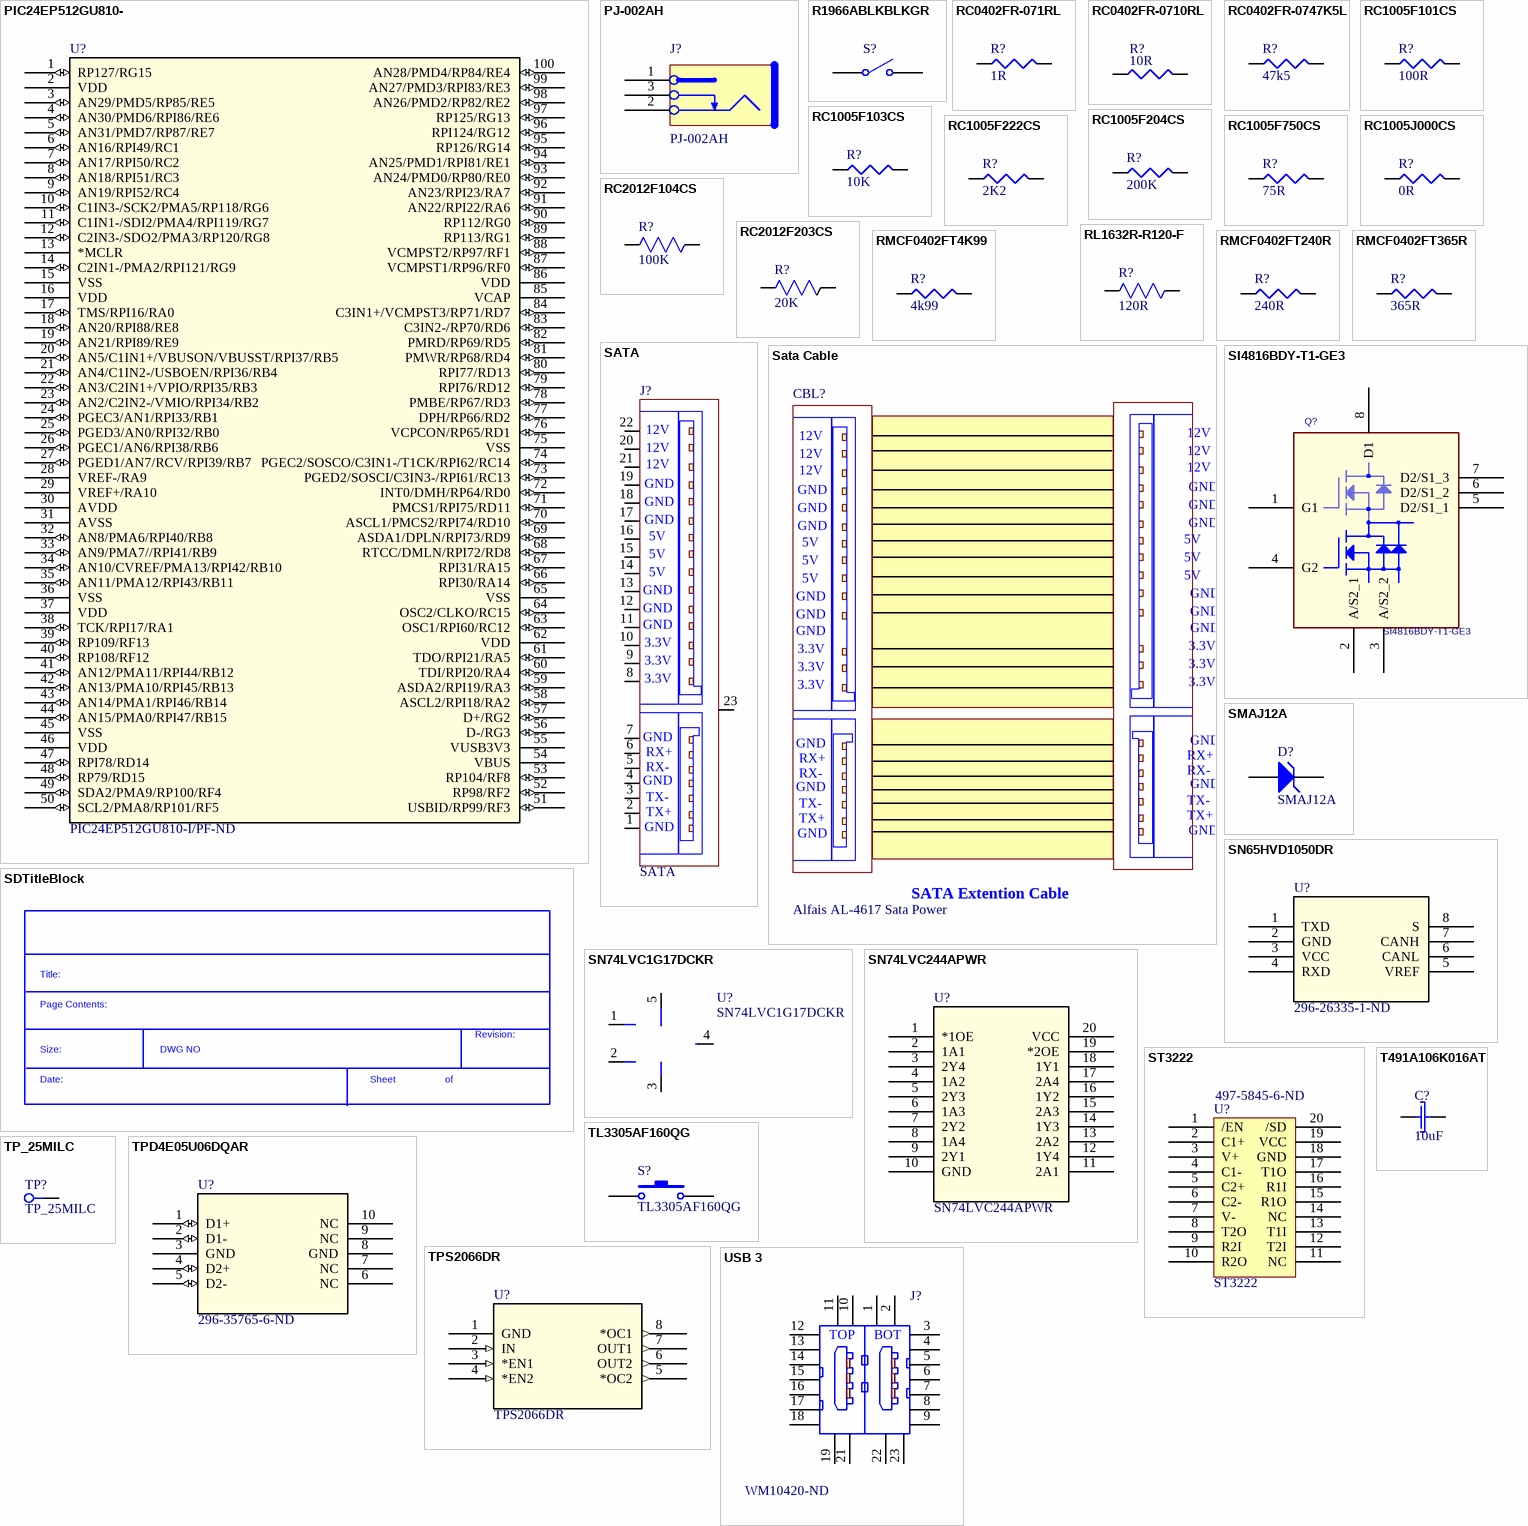
[diagram p2: symbols PIC24EP512GU810- to USB 3]

## PIC24EP512GU810-
designator U?, comment PIC24EP512GU810-I/PF-ND
IC MCU 16BIT 512KB FLASH 100TQFP; Manufacturer_Part_Number: PIC24EP512GU810-I/PT; Manufacturer 1: Microchip Technology; Vendor: Microchip; Built_By: EMA_UL_Team; C: Copyright (C) 2015 Accelerated Designs. All rights reserved; .Checked PCB: CHK; Core Processor: PIC; Core Size: 16-Bit; Speed: 60 MIPs; Connectivity: CANbus, I²C, IrDA, LINbus, SPI, UART/USART, USB OTG; Peripherals: Brown-out Detect/Reset, DMA, POR, PWM, WDT; Program Memory Size: 512KB (170K x 24); RAM Size: 24K x 16; Voltage - Supply (Vcc/Vdd): 3 V ~ 3.6 V; Data Converters: A/D 32x10b/12b; Oscillator Type: Internal; RefDes: RefDes; Type: Type; Value: Value; .Checked SCH: CHK; Supplier 1: Digi-Key; Supplier Part Number 1: PIC24EP512GU810-I/PF-ND; Manufacturer Part Number 1: PIC24EP512GU810-I/PF; RoHS: RoHS Compliant; Description 1: IC MCU 16BIT 512KB FLASH 100TQFP; Category: Integrated Circuits (ICs); Stock 1: 5419; Pricing 1: 1=9.23, 25=8.4668 (USD); Packaging: Tray; Part Status: Active; Program Memory Type: FLASH; EEPROM Size: -; Operating Temperature: -40°C ~ 85°C (TA); Package / Case: 100-TQFP; Supplier Device Package: 100-TQFP (14x14); Base Part Number: PIC24EP512GU810; ComponentLink1URL: http://www.microchip.com/mymicrochip/filehandler.aspx?ddocname=en554454; ComponentLink1Description: http://www.microchip.com/mymicrochip/filehandler.aspx?ddocname=en554454
footprint TQFP100_14x14MC
pins: 1 RP127/RG15 (io), 2 VDD, 3 AN29/PMD5/RP85/RE5 (io), 4 AN30/PMD6/RPI86/RE6 (io), 5 AN31/PMD7/RP87/RE7 (io), 6 AN16/RPI49/RC1 (io), 7 AN17/RPI50/RC2 (io), 8 AN18/RPI51/RC3 (io), 9 AN19/RPI52/RC4 (io), 10 C1IN3-/SCK2/PMA5/RP118/RG6 (io), 11 C1IN1-/SDI2/PMA4/RPI119/RG7 (io), 12 C2IN3-/SDO2/PMA3/RP120/RG8 (io), 13 *MCLR, 14 C2IN1-/PMA2/RPI121/RG9 (io), 15 VSS, 16 VDD, 17 TMS/RPI16/RA0 (io), 18 AN20/RPI88/RE8 (io), 19 AN21/RPI89/RE9 (io), 20 AN5/C1IN1+/VBUSON/VBUSST/RPI37/RB5 (io), 21 AN4/C1IN2-/USBOEN/RPI36/RB4 (io), 22 AN3/C2IN1+/VPIO/RPI35/RB3 (io), 23 AN2/C2IN2-/VMIO/RPI34/RB2 (io), 24 PGEC3/AN1/RPI33/RB1 (io), 25 PGED3/AN0/RPI32/RB0 (io), 26 PGEC1/AN6/RPI38/RB6 (io), 27 PGED1/AN7/RCV/RPI39/RB7 (io), 28 VREF-/RA9, 29 VREF+/RA10, 30 AVDD, 31 AVSS, 32 AN8/PMA6/RPI40/RB8 (io), 33 AN9/PMA7//RPI41/RB9 (io), 34 AN10/CVREF/PMA13/RPI42/RB10 (io), 35 AN11/PMA12/RPI43/RB11 (io), 36 VSS, 37 VDD, 38 TCK/RPI17/RA1 (io), 39 RP109/RF13 (io), 40 RP108/RF12 (io), 41 AN12/PMA11/RPI44/RB12 (io), 42 AN13/PMA10/RPI45/RB13 (io), 43 AN14/PMA1/RPI46/RB14 (io), 44 AN15/PMA0/RPI47/RB15 (io), 45 VSS, 46 VDD, 47 RPI78/RD14 (io), 48 RP79/RD15 (io), 49 SDA2/PMA9/RP100/RF4 (io), 50 SCL2/PMA8/RP101/RF5 (io), 51 USBID/RP99/RF3 (io), 52 RP98/RF2 (io), 53 RP104/RF8 (io), 54 VBUS, 55 VUSB3V3, 56 D-/RG3 (io), 57 D+/RG2 (io), 58 ASCL2/RPI18/RA2 (io), 59 ASDA2/RPI19/RA3 (io), 60 TDI/RPI20/RA4 (io), 61 TDO/RPI21/RA5 (io), 62 VDD, 63 OSC1/RPI60/RC12 (io), 64 OSC2/CLKO/RC15 (io), 65 VSS, 66 RPI30/RA14 (io), 67 RPI31/RA15 (io), 68 RTCC/DMLN/RPI72/RD8 (io), 69 ASDA1/DPLN/RPI73/RD9 (io), 70 ASCL1/PMCS2/RPI74/RD10 (io), 71 PMCS1/RPI75/RD11 (io), 72 INT0/DMH/RP64/RD0 (io), 73 PGED2/SOSCI/C3IN3-/RPI61/RC13 (io), 74 PGEC2/SOSCO/C3IN1-/T1CK/RPI62/RC14 (io), 75 VSS, 76 VCPCON/RP65/RD1 (io), 77 DPH/RP66/RD2 (io), 78 PMBE/RP67/RD3 (io), 79 RPI76/RD12 (io), 80 RPI77/RD13 (io), 81 PMWR/RP68/RD4 (io), 82 PMRD/RP69/RD5 (io), 83 C3IN2-/RP70/RD6 (io), 84 C3IN1+/VCMPST3/RP71/RD7 (io), 85 VCAP, 86 VDD, 87 VCMPST1/RP96/RF0 (io), 88 VCMPST2/RP97/RF1 (io), 89 RP113/RG1 (io), 90 RP112/RG0 (io), 91 AN22/RPI22/RA6 (io), 92 AN23/RPI23/RA7 (io), 93 AN24/PMD0/RP80/RE0 (io), 94 AN25/PMD1/RPI81/RE1 (io), 95 RP126/RG14 (io), 96 RPI124/RG12 (io), 97 RP125/RG13 (io), 98 AN26/PMD2/RP82/RE2 (io), 99 AN27/PMD3/RPI83/RE3 (io), 100 AN28/PMD4/RP84/RE4 (io)

## PJ-002AH
designator J?
CONN PWR JACK 2.1X5.5MM HIGH CUR; Manufacturer: CUI Inc; .Checked PCB: CHK; Mating connector: 2.1mm ID, 5.5mm OD; Gender: Male; Number of Positions/Contacts: 2 Conductors, 3 Contacts; Internal Switch(s): Single Switch, Normally Closed; Shielding: Unshielded; Voltage - Rated: 24VDC; Current Rating: 5A; .Checked SCH: CHK; Category: Connectors, Interconnects; Family: Barrel - Power; Manufacturer Part Number: PJ-002AH; Operating Temperature: -25°C ~ 85°C; Price 1k [$]: 0.23625; Supplier: Digikey; Supplier Part Number: CP-002AH-ND; Value: PJ-002AH; Supplier 1: Digi-Key; Supplier Part Number 1: CP-002AH-ND; RoHS: RoHS Compliant; Stock 1: 138933; Pricing 1: 1=1.01, 10=0.704, 100=0.4724, 500=0.3819, 1000=0.3417, 2500=0.27135 (USD); Connector Type: Jack; Plug/Mating Plug Diameter: 2.1mm ID, 5.5mm OD; Mounting Type: Through Hole, Right Angle; Termination: Solder Eyelet(s); Features: -; Color: Black; Contact Material: Copper Alloy; Contact Material - Plating: Nickel; Housing Color: Black; Housing Material: Thermoplastic; ComponentLink1URL: http://products.cui.com/GetSpecForDigiKey.aspx?MFGNum=PJ-002AH; ComponentLink1Description: http://products.cui.com/GetSpecForDigiKey.aspx?MFGNum=PJ-002AH
footprint POWER_JACK_5.5_2.1MM_NS
pins: 1, 2, 3

## R1966ABLKBLKGR
designator S?  (value not drawn)
SWITCH ROCKER SPST 15A 125V; Manufacturer 1: E-Switch; Switch Function: On-Off; Current Rating: 15A (AC); Actuator Type: Concave (Curved); Color - Actuator/Cap: Black; Actuator Marking: O I; Mechanical Life: 30,000 Cycles; Electrical Life: 10,000 Cycles; Supplier 1: Digi-Key; Supplier Part Number 1: EG2578-ND; Manufacturer Part Number 1: R1966ABLKBLKGR; RoHS: RoHS Compliant; Description 1: SWITCH ROCKER SPST 15A 125V; Category: Switches; Stock 1: 9; Pricing 1: 1=1.58, 10=1.507, 25=1.4384, 50=1.37, 100=1.3015, 250=1.26724, 500=1.19876, 1000=1.06175, 5000=1.0275 (USD); Packaging: Bulk; Part Status: Active; Circuit: SPST; Illumination Type, Color: -; Illumination Voltage (Nominal): -; Mounting Type: Panel Mount, Snap-In, Right Angle; Termination Style: PC Pin; Ingress Protection: -; Features: -; Panel Cutout Dimensions: Rectangular - 19.40mm x 13.00mm; Operating Temperature: -30°C ~ 65°C; ComponentLink1URL: http://spec_sheets.e-switch.com/specs/M301223.pdf; ComponentLink1Description: http://spec_sheets.e-switch.com/specs/M301223.pdf; Published: 24-Mar-1999; LatestRevisionDate: 17-Jul-2002; LatestRevisionNote: Re-released for DXP Platform.; PackageReference: SPST-2; Publisher: Altium Limited; PackageDescription: Switch; 2 Leads
footprint RockerSwitch
pins: 1 COMMON, 2 NO

## RC0402FR-071RL
designator R?, comment 1R
RES 1.00 OHM 1/16W 1% 0402 SM; Manufacturer: Yageo; Manufacturer Part Number: RC0402FR-071RL; Resistance (Ohms): 1; Power (Watts): 0.063W, 1/16W; .Checked PCB: CHK; Temperature Coefficient: ±200ppm/°C; Category: Resistors; Package / Case: 0402 (1005 Metric); Price 1k [$]: 0.01421; Tolerance: ±1%; Value: 1R; .Checked SCH: CHK; Supplier Part Number: 311-1.00LRCT-ND; Supplier: Digikey; Supplier 1: Digi-Key; Supplier Part Number 1: 311-1.00LRCT-ND; RoHS: RoHS Compliant; Stock 1: 347765; Pricing 1: 10=0.019, 50=0.0142, 100=0.0109, 250=0.00808, 500=0.00596, 1000=0.00397 (USD); Composition: Thick Film; Features: -; Size / Dimension: 0.039" L x 0.020" W (1.00mm x 0.50mm); Height: 0.016" (0.40mm); Number of Terminations: 2; Packaging: Cut Tape (CT); ComponentLink1URL: http://www.yageo.com/documents/recent/PYu-RC0402_51_RoHS_L_6.pdf; ComponentLink1Description: http://www.yageo.com/documents/recent/PYu-RC0402_51_RoHS_L_6.pdf
footprint R0402
pins: 1, 2

## RC0402FR-0710RL
designator R?, comment 10R
RES 10.0 OHM 1/16W 1% 0402 SMD; Manufacturer: Yageo; Manufacturer Part Number: RC0402FR-0710RL; Resistance (Ohms): 10; Power (Watts): 0.063W, 1/16W; .Checked PCB: CHK; Temperature Coefficient: ±200ppm/°C; Category: Resistors; Package / Case: 0402 (1005 Metric); Price 1k [$]: 0.01421; Tolerance: ±1%; Value: 10R; .Checked SCH: CHK; Supplier Part Number: 311-10.0LRCT-ND; Supplier: Digikey; Supplier 1: Digi-Key; Supplier Part Number 1: 311-10.0LRCT-ND; RoHS: RoHS Compliant; Stock 1: 681416; Pricing 1: 10=0.014, 50=0.0104, 100=0.0079, 250=0.00584, 500=0.00432, 1000=0.00288 (USD); Composition: Thick Film; Features: -; Size / Dimension: 0.039" L x 0.020" W (1.00mm x 0.50mm); Height: 0.016" (0.40mm); Number of Terminations: 2; Packaging: Cut Tape (CT); ComponentLink1URL: http://www.yageo.com/documents/recent/PYu-RC0402_51_RoHS_L_6.pdf; ComponentLink1Description: http://www.yageo.com/documents/recent/PYu-RC0402_51_RoHS_L_6.pdf
footprint R0402
pins: 1, 2

## RC0402FR-0747K5L
designator R?, comment 47k5
RES 47.5K OHM 1/16W 1% 0402 SMD; Manufacturer: Yageo; Manufacturer Part Number: RC0402FR-0747K5L; Power (Watts): 0.063W, 1/16W; Temperature Coefficient: ±100ppm/°C; .Checked PCB: CHK; Supplier 1: Digi-Key; Supplier Part Number 1: 311-47.5KLRCT-ND; RoHS: RoHS Compliant; Category: Resistors; Stock 1: 59607; Pricing 1: 10=0.014, 100=0.0063, 500=0.00382, 1000=0.0027, 5000=0.00203 (USD); Resistance (Ohms): 47.5K; Composition: Thick Film; Features: -; Tolerance: ±1%; Package / Case: 0402 (1005 Metric); Size / Dimension: 0.039" L x 0.020" W (1.00mm x 0.50mm); Height: 0.016" (0.40mm); Number of Terminations: 2; Packaging: Cut Tape (CT); ComponentLink1URL: http://www.yageo.com/documents/recent/PYu-RC0402_51_RoHS_L_6.pdf; ComponentLink1Description: http://www.yageo.com/documents/recent/PYu-RC0402_51_RoHS_L_6.pdf; .Checked SCH: CHK
footprint R0402
pins: 1, 2

## RC1005F101CS
designator R?, comment 100R
RES SMD 100 OHM 1% 1/16W 0402; Manufacturer 1: Samsung Electro-Mechanics; Manufacturer Part Number 1: RC1005F101CS; Power (Watts): 0.063W, 1/16W; .Checked PCB: RF; Temperature Coefficient: ±100ppm/°C; Category: Resistors; Package / Case: 0402 (1005 Metric); Tolerance: ±1%; value: 100R; .Checked SCH: RF; Supplier 1: Digi-Key; Supplier Part Number 1: 1276-3429-6-ND; RoHS: RoHS Compliant; Stock 1: 461434; Pricing 1: 1=0.1, 10=0.021, 100=0.0087, 1000=0.00391, 2500=0.00339, 5000=0.0028 (USD); Composition: Thick Film; Features: Moisture Resistant; Size / Dimension: 0.039" L x 0.020" W (1.00mm x 0.50mm); Packaging: Digi-Reel®; ComponentLink1URL: http://www.samsungsem.com/kr/support/product-search/chip-resistor/RC1005F101CS.jsp; ComponentLink1Description: http://www.samsungsem.com/kr/support/product-search/chip-resistor/RC1005F101CS.jsp; Part Status: Active; Operating Temperature: -55°C ~ 155°C; Supplier Device Package: 0402; Height - Seated (Max): 0.016" (0.40mm); Failure Rate: -; Description 1: RES SMD 100 OHM 1% 1/16W 0402
footprint R0402
pins: 1, 2